# EAGLE library part D1-MINI-SDCARD-CUT (library IBe-9102-lib)
Template for WEMOS D1 mini compatible shields NOTICE: This is a template only. You can use it as a base to create symbols for WEMOS D1 mini compatible shields. Official list of available shields can be found here: https://www.wemos.cc/D1-mini-Shields
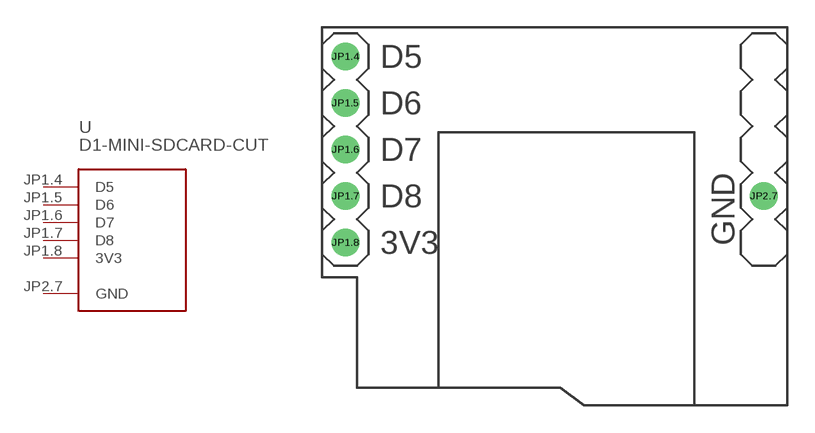
[diagram p3: symbol with the pads of D1-MINI-SDCARD-CUT; footprint D1-MINI-SDCARD-CUT]

Designator prefix -

## D1-MINI-SDCARD-CUT  [D1-MINI-SDCARD-CUT]
JP1.4  D5
JP1.5  D6
JP1.6  D7
JP1.7  D8
JP1.8  3V3  pwr
JP2.7  GND  pwr

## Footprint D1-MINI-SDCARD-CUT (pad centres in mm)
Template package for WEMOS D1 mini shields
drill 1: JP1.4 -11.43,4.445; JP1.5 -11.43,1.905; JP1.6 -11.43,-0.635; JP1.7 -11.43,-3.175; JP1.8 -11.43,-5.715; JP2.7 11.43,-3.175